# EAGLE library part INA226 (library ic-TI)
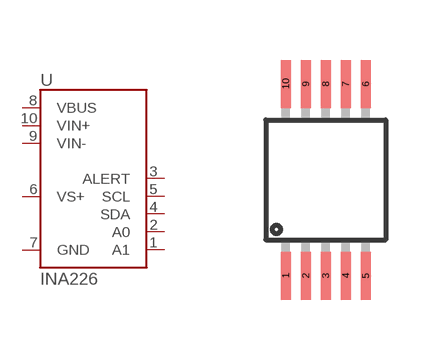
[diagram p37: symbol with the pads of MSOP10; footprint MSOP10]

Designator prefix U

## INA226  [MSOP10]
1  A1  in
2  A0  in
3  ALERT  out
4  SDA
5  SCL
6  VS+  in
7  GND  in
8  VBUS  in
9  VIN-  in
10  VIN+  in

## Footprint MSOP10 (pad centres in mm)
smd 0.25 x 1.2: 1 -1,-2.4; 2 -0.5,-2.4; 3 0,-2.4; 4 0.5,-2.4; 5 1,-2.4; 6 1,2.4; 7 0.5,2.4; 8 0,2.4; 9 -0.5,2.4; 10 -1,2.4